# Altium footprint library 1-406541-5.PcbLib: 2 footprints
Each footprint in its own frame and in the unit in brackets; x right, y up, seen from the top. Pads: shape width x height; smd on the part's side, far side on the other; paste and mask are expansions set on the pad; w line width, h text height; cw(c..) or ccw(c..) is an arc to the next point about the centre after c.
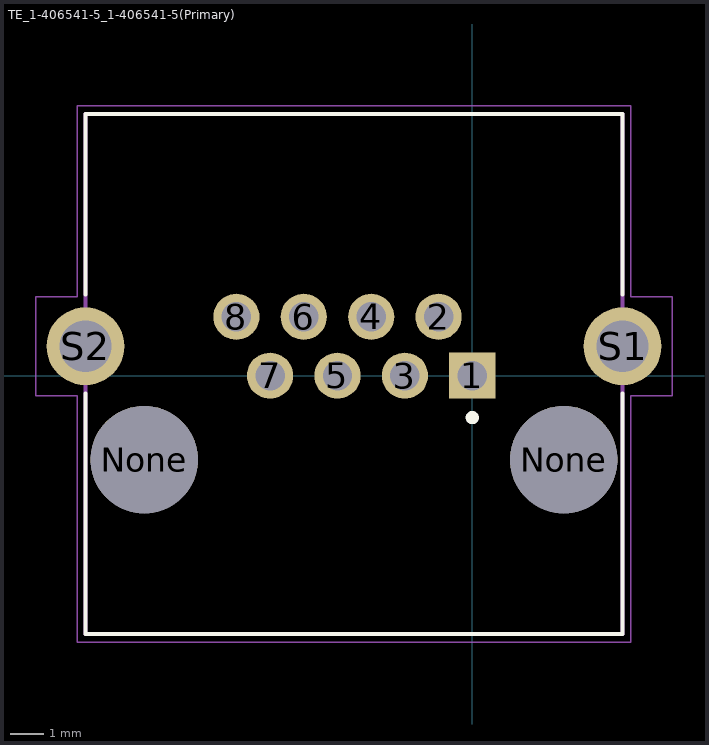
[diagram p0: the footprints below, top view; thin cyan lines are the x and y axes]

## PCBComponent_1 [mm]

## TE_1-406541-5_1-406541-5(Primary) [mm]
pads (12):
  rect 1.398x1.398 hole 0.89: 1(0,0)
  round 1.398 hole 0.89: 2(-1.02,1.78) 3(-2.04,0) 4(-3.06,1.78) 5(-4.08,0) 6(-5.1,1.78) 7(-6.12,0) 8(-7.14,1.78)
  round 3.25 hole 3.25 unplated: None(-9.93,-2.54) None(2.77,-2.54)
  round 2.355 hole 1.57: S1(4.55,0.89) S2(-11.71,0.89)
Top Overlay:
  circle w0.2: c0,-1.27 r0.1
  lines w0.127: -11.71,-0.54 -11.71,-7.82 4.55,-7.82 4.55,-0.54 ; -11.71,2.46 -11.71,7.92 4.55,7.92 4.55,2.46
Mechanical 13:
  lines w0.127: -11.71,-7.82 4.55,-7.82 ; -11.71,-7.82 -11.71,7.92 ; -11.71,-7.82 4.55,-7.82 ; -11.71,-7.82 -11.71,7.92 ; -11.71,7.92 4.55,7.92 ; -11.71,7.92 4.55,7.92 ; 4.55,-7.82 4.55,7.92 ; 4.55,-7.82 4.55,7.92
Mechanical 15:
  lines w0.05: -13.21,-0.61 -11.96,-0.61 -11.96,-8.07 4.8,-8.07 4.8,-0.61 6.05,-0.61 6.05,2.39 4.8,2.39 4.8,8.17 -11.96,8.17 -11.96,2.39 -13.21,2.39 -13.21,-0.61